# EAGLE library part NXP_PARTS_PINHEADER_7PIN_2,54MM_DRILL_1MM (library SMD-Components_E950)
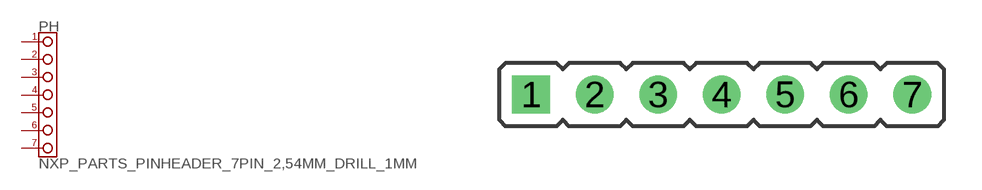
[diagram p2: symbol with the pads of NXP_PARTS_PINHEADER_7PIN_2,54MM_DRILL_1MM; footprint NXP_PARTS_PINHEADER_7PIN_2,54MM_DRILL_1MM]

Designator prefix PH

## NXP_PARTS_PINHEADER_7PIN_2,54MM_DRILL_1MM (DESCRIPTION: Stiftleiste 1x40p ger. RM2,54 a/b/c 10,8/5,8/2,5 hauchverg.; HIQUELNUMBER: 13015689; MANUFACT-DISTRIB: W&P: 943-11-040-00; NXP-COMMENTS: 7 pol)  [NXP_PARTS_PINHEADER_7PIN_2,54MM_DRILL_1MM]
1  1  pas
2  2  pas
3  3  pas
4  4  pas
5  5  pas
6  6  pas
7  7  pas

## Footprint NXP_PARTS_PINHEADER_7PIN_2,54MM_DRILL_1MM (pad centres in mm)
drill 1 square: 1 0,0
drill 1: 2 2.54,0; 3 5.08,0; 4 7.62,0; 5 10.16,0; 6 12.7,0; 7 15.24,0